# Altium footprint library RF-Couplers.PcbLib: 1 footprints
Each footprint in its own frame and in the unit in brackets; x right, y up, seen from the top. Pads: shape width x height; smd on the part's side, far side on the other; paste and mask are expansions set on the pad; w line width, h text height; cw(c..) or ccw(c..) is an arc to the next point about the centre after c.
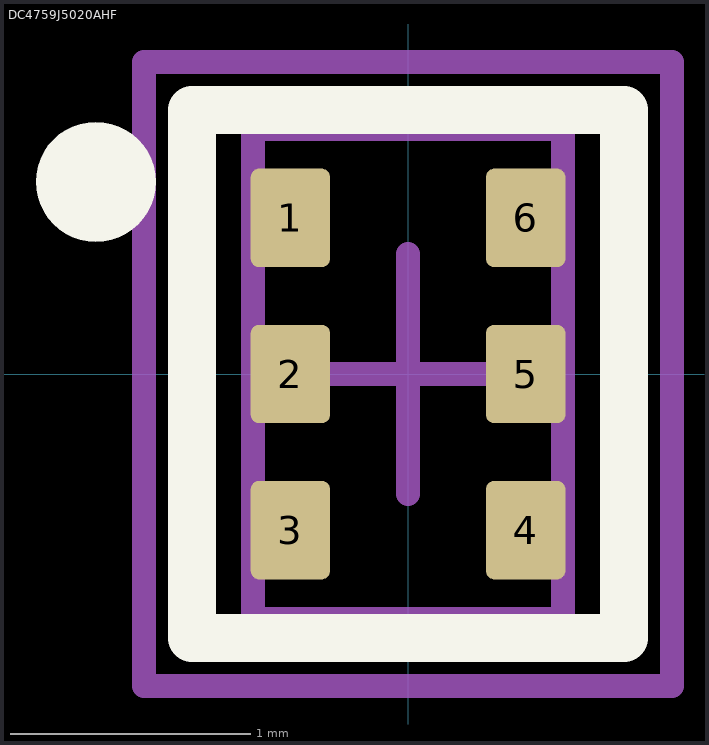
[diagram p0: the footprint, top view; thin cyan lines are the x and y axes]

## DC4759J5020AHF [mm]
pads (7):
  rrect20% 0.33x0.41 smd: 1(-0.49,0.65) 2(-0.49,0) 3(-0.49,-0.65) 4(0.49,-0.65) 5(0.49,0) 6(0.49,0.65)
  round 0.5 on Top Overlay: ""(-1.3,0.8)
Top Overlay:
  lines w0.2: -0.9,-1.1 0.9,-1.1 0.9,1.1 -0.9,1.1 -0.9,-1.1
Mechanical 1:
  lines w0.1: -0.645,-1.02 -0.645,1.02 0.645,1.02 0.645,-1.02 -0.645,-1.02
Mechanical 15:
  lines w0.1: -0.5,0 0.5,0 ; 0,-0.5 0,0.5 ; -1.1,-1.3 1.1,-1.3 1.1,1.3 -1.1,1.3 -1.1,-1.3
3D body "Anaren_DC4759J5020AHF.STEP": height 0.55, standoff 0, extent -0.645,-1.02 0.645,1.02